# EAGLE library part JST-PH-08 (library Header and Connector)
JST-PH Connector - 8 Ways
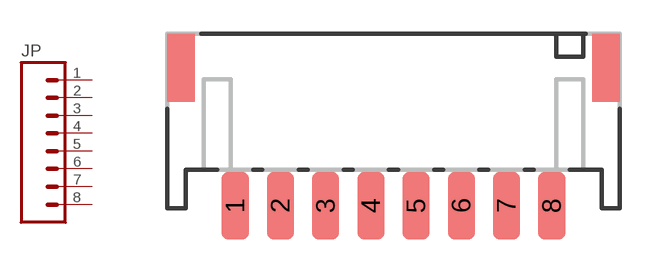
[diagram p34: symbol with the pads of JST-S8B-PH-SM4-TB; footprint JST-S8B-PH-SM4-TB]

Designator prefix JP

## JST-PH-08 (CYTRON-PC: S-CN-2022PR-08; DESC: S Connector 2022PR 8pin; MF: MSTCONN; MPN: 2.0-A-8PWB; VALUE: 8 ways)  [JST-S8B-PH-SM4-TB]
1  1  pas
2  2  pas
3  3  pas
4  4  pas
5  5  pas
6  6  pas
7  7  pas
8  8  pas

## Footprint JST-S8B-PH-SM4-TB (pad centres in mm)
SMD 8 Ways Connector (Right Angle) S8B-PH-SM4-TB Modified by: Idris 1. Make the center pointer at the center of the component (request by production).
smd 1.2 x 3: 1 -7,-1.27; 2 -5,-1.27; 3 -3,-1.27; 4 -1,-1.27; 5 1,-1.27; 6 3,-1.27; 7 5,-1.27; 8 7,-1.27